# Altium schematic symbol library SCH - AMP AUDIO - ANALOG SSM2306CPZ-REEL.SchLib: 1 symbol
Pins are listed as number, name and electrical type; pins without a type are passive.

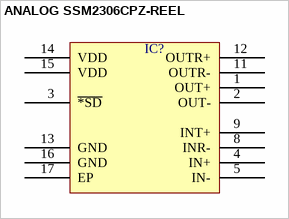
[diagram p0: symbol ANALOG SSM2306CPZ-REEL]

## ANALOG SSM2306CPZ-REEL
designator IC?  (value not drawn)
pins: 1 OUT+, 2 OUT-, 3 ~{*SD}, 4 IN+, 5 IN-, 8 INR-, 9 INT+, 11 OUTR-, 12 OUTR+, 13 GND, 14 VDD, 15 VDD, 16 GND, 17 EP